# EAGLE library part VS1000 (library lpatiny)
Arduino Nano I/O pin arrangement
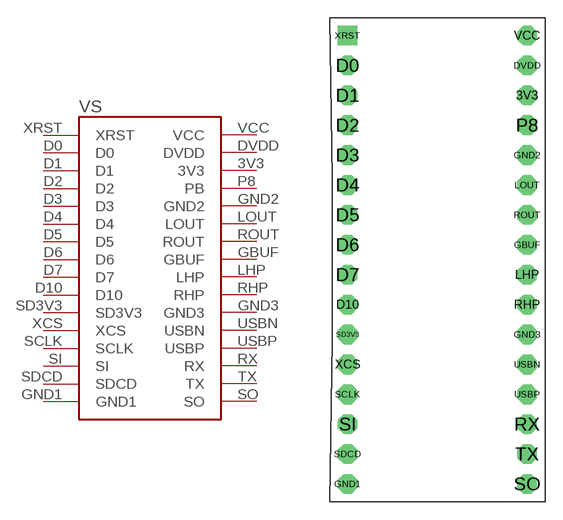
[diagram p12: symbol with the pads of VS1000; footprint VS1000]

Designator prefix VS

## VS1000  [VS1000]
3V3  3V3
D0  D0
D1  D1
D2  D2
D3  D3
D4  D4
D5  D5
D6  D6
D7  D7
D10  D10
DVDD  DVDD
GBUF  GBUF
GND1  GND1
GND2  GND2
GND3  GND3
LHP  LHP
LOUT  LOUT
P8  PB
RHP  RHP
ROUT  ROUT
RX  RX
SCLK  SCLK  pwr
SD3V3  SD3V3  pwr
SDCD  SDCD
SI  SI  pwr
SO  SO
TX  TX
USBN  USBN
USBP  USBP
VCC  VCC
XCS  XCS  pwr
XRST  XRST

## Footprint VS1000 (pad centres in mm)
drill 0.8 pad 1.676 octagon: 3V3 15.24,-7.62; D0 0,-5.08; D1 0,-7.62; D2 0,-10.16; D3 0,-12.7; D4 0,-15.24; D5 0,-17.78; D6 0,-20.32; D7 0,-22.86; D10 0,-25.4; DVDD 15.24,-5.08; GBUF 15.24,-20.32; GND1 0,-40.64; GND2 15.24,-12.7; GND3 15.24,-27.94; LHP 15.24,-22.86; LOUT 15.24,-15.24; P8 15.24,-10.16; RHP 15.24,-25.4; ROUT 15.24,-17.78; RX 15.24,-35.56; SCLK 0,-33.02; SD3V3 0,-27.94; SDCD 0,-38.1; SI 0,-35.56; SO 15.24,-40.64; TX 15.24,-38.1; USBN 15.24,-30.48; USBP 15.24,-33.02; VCC 15.24,-2.54; XCS 0,-30.48
drill 0.8 pad 1.676 square: XRST 0,-2.54